# EAGLE library part R5F51105ADFM (library systas0)
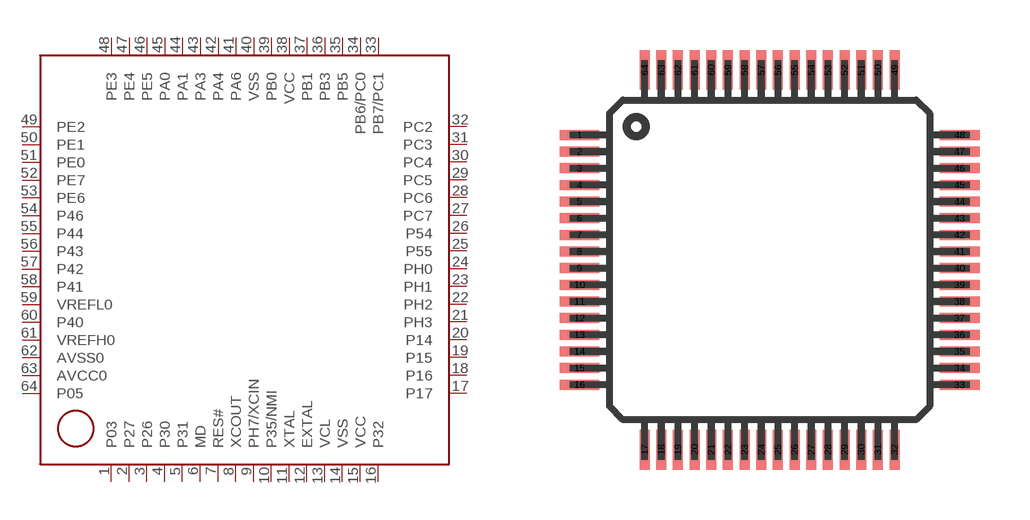
[diagram p17: symbol with the pads of TQFP64-10X10; footprint TQFP64-10X10]

Designator prefix -

## R5F51105ADFM  [TQFP64-10X10]
1  P03
2  P27
3  P26
4  P30
5  P31
6  MD
7  RES#
8  XCOUT
9  PH7/XCIN
10  P35/NMI
11  XTAL
12  EXTAL
13  VCL
14  VSS
15  VCC
16  P32
17  P17
18  P16
19  P15
20  P14
21  PH3
22  PH2
23  PH1
24  PH0
25  P55
26  P54
27  PC7
28  PC6
29  PC5
30  PC4
31  PC3
32  PC2
33  PB7/PC1
34  PB6/PC0
35  PB5
36  PB3
37  PB1
38  VCC
39  PB0
40  VSS
41  PA6
42  PA4
43  PA3
44  PA1
45  PA0
46  PE5
47  PE4
48  PE3
49  PE2
50  PE1
51  PE0
52  PE7
53  PE6
54  P46
55  P44
56  P43
57  P42
58  P41
59  VREFL0
60  P40
61  VREFH0
62  AVSS0
63  AVCC0
64  P05

## Footprint TQFP64-10X10 (pad centres in mm)
smd 1.2 x 0.3: 1 -5.7,3.75; 2 -5.7,3.25; 3 -5.7,2.75; 4 -5.7,2.25; 5 -5.7,1.75; 6 -5.7,1.25; 7 -5.7,0.75; 8 -5.7,0.25; 9 -5.7,-0.25; 10 -5.7,-0.75; 11 -5.7,-1.25; 12 -5.7,-1.75; 13 -5.7,-2.25; 14 -5.7,-2.75; 15 -5.7,-3.25; 16 -5.7,-3.75; 33 5.7,-3.75; 34 5.7,-3.25; 35 5.7,-2.75; 36 5.7,-2.25; 37 5.7,-1.75; 38 5.7,-1.25; 39 5.7,-0.75; 40 5.7,-0.25; 41 5.7,0.25; 42 5.7,0.75; 43 5.7,1.25; 44 5.7,1.75; 45 5.7,2.25; 46 5.7,2.75; 47 5.7,3.25; 48 5.7,3.75
smd 0.3 x 1.2: 17 -3.75,-5.7; 18 -3.25,-5.7; 19 -2.75,-5.7; 20 -2.25,-5.7; 21 -1.75,-5.7; 22 -1.25,-5.7; 23 -0.75,-5.7; 24 -0.25,-5.7; 25 0.25,-5.7; 26 0.75,-5.7; 27 1.25,-5.7; 28 1.75,-5.7; 29 2.25,-5.7; 30 2.75,-5.7; 31 3.25,-5.7; 32 3.75,-5.7; 49 3.75,5.7; 50 3.25,5.7; 51 2.75,5.7; 52 2.25,5.7; 53 1.75,5.7; 54 1.25,5.7; 55 0.75,5.7; 56 0.25,5.7; 57 -0.25,5.7; 58 -0.75,5.7; 59 -1.25,5.7; 60 -1.75,5.7; 61 -2.25,5.7; 62 -2.75,5.7; 63 -3.25,5.7; 64 -3.75,5.7